# Altium footprint library Cap libraries.PcbLib: 3 footprints
Each footprint in its own frame and in the unit in brackets; x right, y up, seen from the top. Pads: shape width x height; smd on the part's side, far side on the other; paste and mask are expansions set on the pad; w line width, h text height; cw(c..) or ccw(c..) is an arc to the next point about the centre after c.
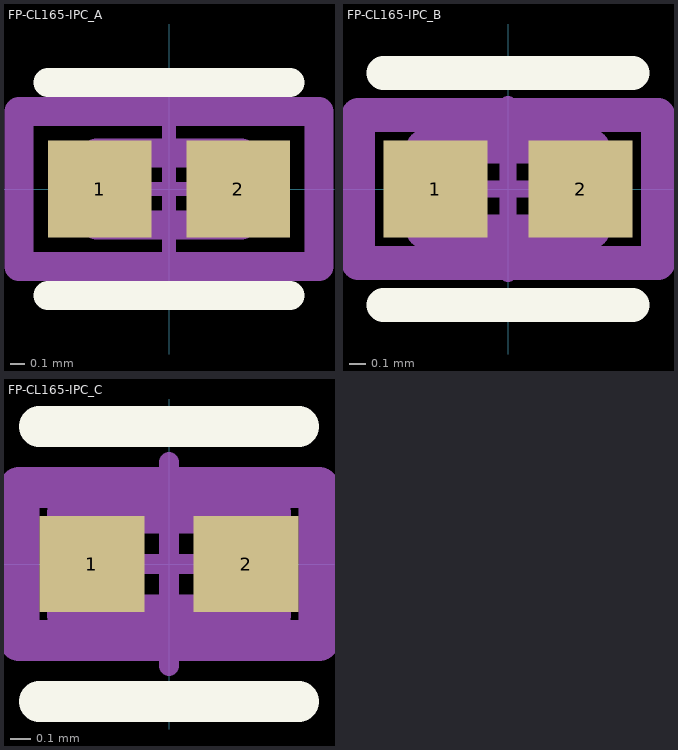
[diagram p0: the footprints below, top view; thin cyan lines are the x and y axes]

## FP-CL165-IPC_A [mm]
pads (2):
  rect 0.715x0.672 smd paste+0 mask+0: 1(-0.479,0) 2(0.479,0)
Top Overlay:
  lines w0.2: -0.836,-0.736 0.836,-0.736 ; -0.836,0.736 0.836,0.736
Top Assembly:
  lines w0.2: -1.036,-0.536 1.036,-0.536 1.036,0.536 -1.036,0.536 -1.036,-0.536
  text ".Designator" at 0,0.188 h1
Top 3D Body:
  lines w0.2: -0.5,-0.25 0.5,-0.25 0.5,0.25 -0.5,0.25 -0.5,-0.25
Top Courtyard:
  lines w0.2: -1.036,-0.536 1.036,-0.536 1.036,0.536 -1.036,0.536 -1.036,-0.536
Top Component Center:
  lines w0.1: -0.5,0 0.5,0 ; 0,-0.5 0,0.5
3D body "Cap_Samsung_CL05B103KB5NNNC_eec.STEP": height 0.25, standoff 0, extent -1.036,-0.536 1.036,0.536

## FP-CL165-IPC_B [mm]
pads (2):
  rect 0.615x0.572 smd paste+0 mask+0: 1(-0.429,0) 2(0.429,0)
Top Overlay:
  lines w0.2: -0.736,-0.686 0.736,-0.686 ; -0.736,0.686 0.736,0.686
Top Assembly:
  lines w0.2: -0.886,-0.436 0.886,-0.436 0.886,0.436 -0.886,0.436 -0.886,-0.436
  text ".Designator" at 0,-0.001 h1
Top 3D Body:
  lines w0.2: -0.5,-0.25 0.5,-0.25 0.5,0.25 -0.5,0.25 -0.5,-0.25
Top Courtyard:
  lines w0.2: -0.886,-0.436 0.886,-0.436 0.886,0.436 -0.886,0.436 -0.886,-0.436
Top Component Center:
  lines w0.1: -0.5,0 0.5,0 -0.5,0 ; 0,-0.5 0,0.5 0,-0.5
3D body "Cap_Samsung_CL05B103KB5NNNC_eec.STEP": height 0.25, standoff 0, extent -0.886,-0.436 0.886,0.436

## FP-CL165-IPC_C [mm]
pads (2):
  rect 0.515x0.472 smd paste+0 mask+0: 1(-0.379,0) 2(0.379,0)
Top Overlay:
  lines w0.2: -0.636,-0.675 0.636,-0.675 ; -0.636,0.675 0.636,0.675
Top Assembly:
  lines w0.2: -0.736,-0.375 0.736,-0.375 0.736,0.375 -0.736,0.375 -0.736,-0.375
  text ".Designator" at 0,-0.001 h1
Top 3D Body:
  lines w0.2: -0.5,-0.25 0.5,-0.25 0.5,0.25 -0.5,0.25 -0.5,-0.25
Top Courtyard:
  lines w0.2: -0.736,-0.375 0.736,-0.375 0.736,0.375 -0.736,0.375 -0.736,-0.375
Top Component Center:
  lines w0.1: -0.5,0 0.5,0 -0.5,0 ; 0,-0.5 0,0.5 0,-0.5
3D body "Cap_Samsung_CL05B103KB5NNNC_eec.STEP": height 0.25, standoff 0, extent -0.736,-0.375 0.736,0.375